# Altium footprint library SMT_TP-1MM.PcbLib: 1 footprints
Each footprint in its own frame and in the unit in brackets; x right, y up, seen from the top. Pads: shape width x height; smd on the part's side, far side on the other; paste and mask are expansions set on the pad; w line width, h text height; cw(c..) or ccw(c..) is an arc to the next point about the centre after c.
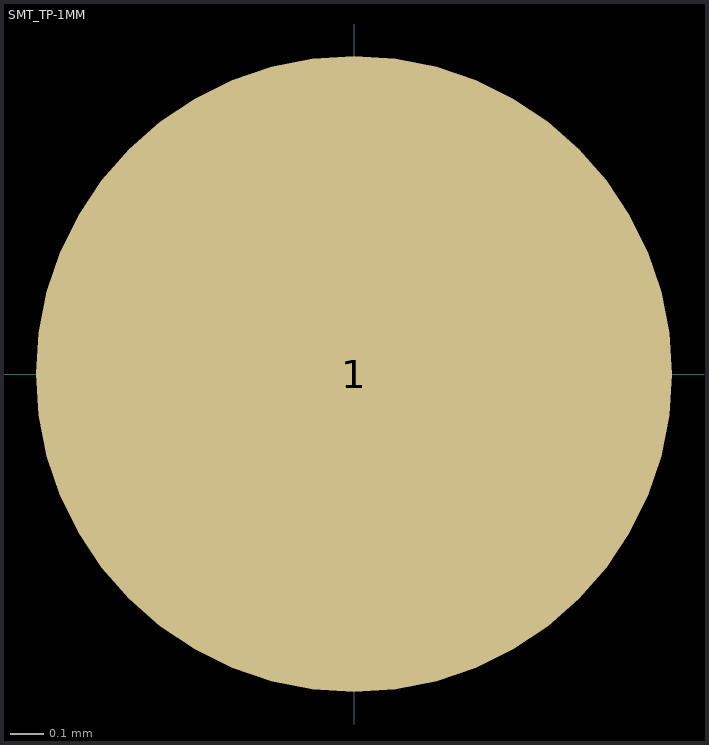
[diagram p0: the footprint, top view; thin cyan lines are the x and y axes]

## SMT_TP-1MM [mil] "1MM SMT Test pad"
height 62.99
pads (1):
  round 75 smd paste-10: 1(0,0)